# EAGLE library part LD56100DPU30R (library edrtech_lib)
LDO Voltage Regulators POWER MANAGEMENT Source: Datasheet <https://componentsearchengine.com/Datasheets/1/LD56100DPU30R.pdf>
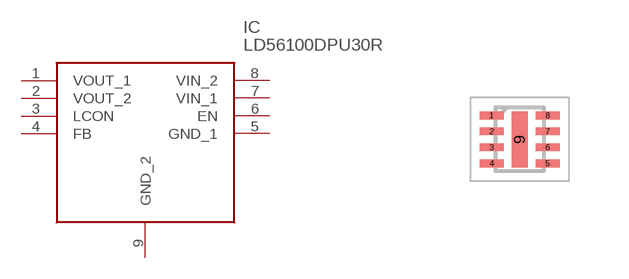
[diagram p31: symbol with the pads of SON40P120X160X50-9N; footprint SON40P120X160X50-9N]

Designator prefix IC

## LD56100DPU30R (ARROW_PART_NUMBER: LD56100DPU30R; ARROW_PRICE-STOCK: https://www.arrow.com/en/products/ld56100dpu30r/stmicroelectronics?region=nac; DESCRIPTION: LDO Voltage Regulators POWER MANAGEMENT; HEIGHT: 0.5mm; MANUFACTURER_NAME: STMicroelectronics; MANUFACTURER_PART_NUMBER: LD56100DPU30R; MOUSER_PART_NUMBER: 511-LD56100DPU30R; MOUSER_PRICE-STOCK: https://www.mouser.co.uk/ProductDetail/STMicroelectronics/LD56100DPU30R?qs=rrS6PyfT74cpfJYuxhTQmg%3D%3D)  [SON40P120X160X50-9N]
1  VOUT_1
2  VOUT_2
3  LCON
4  FB
5  GND_1
6  EN
7  VIN_1
8  VIN_2
9  GND_2

## Footprint SON40P120X160X50-9N (pad centres in mm)
dfn8-ren1
smd 0.6 x 0.2: 1 -0.7,0.6; 2 -0.7,0.2; 3 -0.7,-0.2; 4 -0.7,-0.6; 5 0.7,-0.6; 6 0.7,-0.2; 7 0.7,0.2; 8 0.7,0.6
smd 0.4 x 1.4: 9 0,0